# Altium footprint library Footprints.PcbLib: 13 footprints
Each footprint in its own frame and in the unit in brackets; x right, y up, seen from the top. Pads: shape width x height; smd on the part's side, far side on the other; paste and mask are expansions set on the pad; w line width, h text height; cw(c..) or ccw(c..) is an arc to the next point about the centre after c.
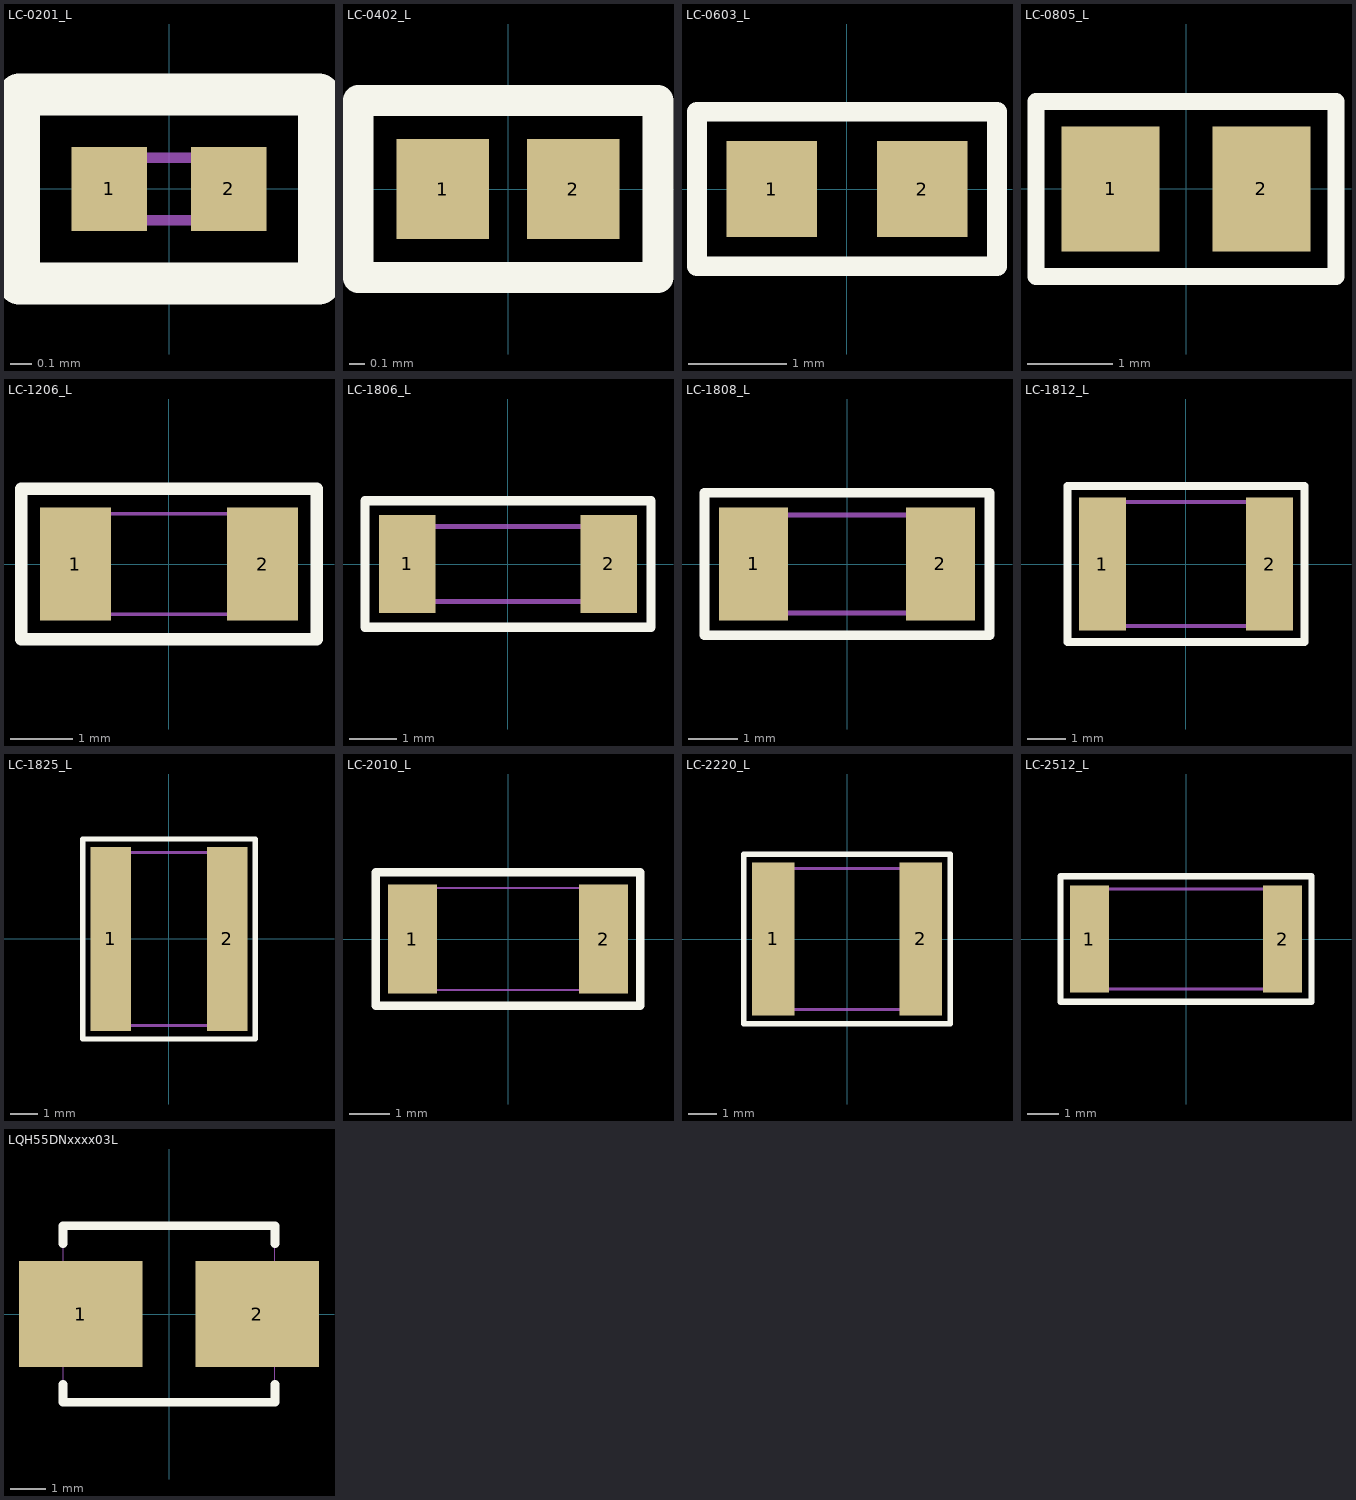
[diagram p0: the footprints below, top view; thin cyan lines are the x and y axes]

## LC-0201_L [mm]
pads (2):
  rect 0.36x0.4 smd mask+0.051: 1(-0.285,0) 2(0.285,0)
Top Overlay:
  lines w0.2: -0.715,-0.45 -0.715,0.45 0.715,0.45 0.715,-0.45 -0.715,-0.45
Mechanical 13:
  lines w0.05: -0.3,-0.15 0.3,-0.15 0.3,0.15 -0.3,0.15 -0.3,-0.15

## LC-0402_L [mm]
pads (2):
  rect 0.6x0.65 smd mask+0.051: 1(-0.425,0) 2(0.425,0)
Top Overlay:
  lines w0.2: -0.975,-0.575 0.975,-0.575 0.975,0.575 -0.975,0.575 -0.975,-0.575
3D body "L0402.STEP": height 0.36, standoff -0.01, extent -0.512,-0.262 0.538,0.263

## LC-0603_L [mm]
pads (2):
  rect 0.93x0.98 smd: 1(-0.77,0) 2(0.77,0)
Top Overlay:
  lines w0.2: -1.535,-0.79 1.535,-0.79 1.535,0.79 -1.535,0.79 -1.535,-0.79
3D body "L0603.STEP": height 0.46, standoff -0.01, extent -0.825,-0.412 0.825,0.413

## LC-0805_L [mm]
pads (2):
  rect 1.16x1.47 smd: 1(-0.89,0) 2(0.89,0)
Top Overlay:
  lines w0.2: -1.77,-1.035 -1.77,1.035 1.77,1.035 1.77,-1.035 -1.77,-1.035
3D body "L0805.STEP": height 0.6, standoff -0.02, extent -1.022,-0.637 1.028,0.638

## LC-1206_L [mm]
pads (2):
  rect 1.13x1.8 smd: 1(-1.49,0) 2(1.49,0)
Top Overlay:
  lines w0.2: -2.355,-1.2 -2.355,1.2 2.355,1.2 2.355,-1.2 -2.355,-1.2
Mechanical 13:
  lines w0.05: -1.6,-0.8 -1.6,0.8 1.6,0.8 1.6,-0.8 -1.6,-0.8

## LC-1806_L [mm]
pads (2):
  rect 1.2x2.1 smd: 1(-2.15,0) 2(2.15,0)
Top Overlay:
  lines w0.2: -3.05,-1.35 -3.05,1.35 3.05,1.35 3.05,-1.35 -3.05,-1.35
Mechanical 13:
  lines w0.1: -2.25,-0.8 -2.25,0.8 2.25,0.8 2.25,-0.8 -2.25,-0.8

## LC-1808_L [mm]
pads (2):
  rect 1.4x2.3 smd: 1(-1.9,0) 2(1.9,0)
Top Overlay:
  lines w0.2: -2.9,-1.45 -2.9,1.45 2.9,1.45 2.9,-1.45 -2.9,-1.45
Mechanical 13:
  lines w0.1: -2.25,-1 -2.25,1 2.25,1 2.25,-1 -2.25,-1

## LC-1812_L [mm]
pads (2):
  rect 1.2x3.42 smd: 1(-2.15,0) 2(2.15,0)
Top Overlay:
  lines w0.2: -3.05,-2.01 -3.05,2.01 3.05,2.01 3.05,-2.01 -3.05,-2.01
Mechanical 13:
  lines w0.1: -2.25,-1.6 -2.25,1.6 2.25,1.6 2.25,-1.6 -2.25,-1.6

## LC-1825_L [mm]
pads (2):
  rect 1.5x6.81 smd: 1(-2.15,0) 2(2.15,0)
Top Overlay:
  lines w0.2: -3.2,-3.705 -3.2,3.705 3.2,3.705 3.2,-3.705 -3.2,-3.705
Mechanical 13:
  lines w0.1: -2.3,-3.2 2.3,-3.2 2.3,3.2 -2.3,3.2 -2.3,-3.2

## LC-2010_L [mm]
pads (2):
  rect 1.2x2.67 smd: 1(-2.34,0) 2(2.34,0)
Top Overlay:
  lines w0.2: -3.24,-1.635 3.24,-1.635 3.24,1.635 -3.24,1.635 -3.24,-1.635
Mechanical 13:
  lines w0.05: -2.5,-1.25 2.5,-1.25 2.5,1.25 -2.5,1.25 -2.5,-1.25

## LC-2220_L [mm]
pads (2):
  rect 1.5x5.42 smd: 1(-2.62,0) 2(2.62,0)
Top Overlay:
  lines w0.2: -3.67,-3.01 3.67,-3.01 3.67,3.01 -3.67,3.01 -3.67,-3.01
Mechanical 13:
  lines w0.1: -2.9,-2.5 -2.9,2.5 2.9,2.5 2.9,-2.5 -2.9,-2.5

## LC-2512_L [mm]
pads (2):
  rect 1.25x3.42 smd: 1(-3.1,0) 2(3.1,0)
Top Overlay:
  lines w0.2: -4.025,-2.01 -4.025,2.01 4.025,2.01 4.025,-2.01 -4.025,-2.01
Mechanical 13:
  lines w0.1: -3.15,-1.6 -3.15,1.6 3.15,1.6 3.15,-1.6 -3.15,-1.6

## LQH55DNxxxx03L [mm] "Murata LQH55DNxxxx03L series inductors"
height 5
pads (2):
  rect 3.5x3 smd: 1(-2.5,0) 2(2.5,0)
Top Overlay:
  lines w0.254: -3,-2 -3,-2.5 3,-2.5 3,-2 ; -3,2 -3,2.5 3,2.5 3,2
Mechanical 13:
  lines w0.01: -3,-2.5 -3,2.5 3,2.5 3,-2.5 -3,-2.5
3D body "LQH55D series.SLDPRT": height 4.7, standoff 0, extent -2.85,-2.5 2.85,2.5